# EAGLE library part GEC10DABN-M30 (library con-sullins)
HEADER - Vertical
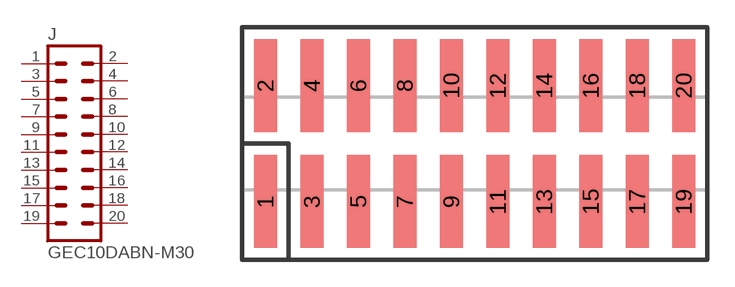
[diagram p7: symbol with the pads of GXC10; footprint GXC10]

Designator prefix J

## GEC10DABN-M30  [GXC10]
1  1  pas
2  2  pas
3  3  pas
4  4  pas
5  5  pas
6  6  pas
7  7  pas
8  8  pas
9  9  pas
10  10  pas
11  11  pas
12  12  pas
13  13  pas
14  14  pas
15  15  pas
16  16  pas
17  17  pas
18  18  pas
19  19  pas
20  20  pas

## Footprint GXC10 (pad centres in mm)
SMD HEADER - 0.1", Vertical
smd 1.27 x 5.08: 1 -11.43,-3.175; 2 -11.43,3.175; 3 -8.89,-3.175; 4 -8.89,3.175; 5 -6.35,-3.175; 6 -6.35,3.175; 7 -3.81,-3.175; 8 -3.81,3.175; 9 -1.27,-3.175; 10 -1.27,3.175; 11 1.27,-3.175; 12 1.27,3.175; 13 3.81,-3.175; 14 3.81,3.175; 15 6.35,-3.175; 16 6.35,3.175; 17 8.89,-3.175; 18 8.89,3.175; 19 11.43,-3.175; 20 11.43,3.175